# Altium footprint library PCB1.PcbLib: 37 footprints (part 1 of 3)
Each footprint in its own frame and in the unit in brackets; x right, y up, seen from the top. Pads: shape width x height; smd on the part's side, far side on the other; paste and mask are expansions set on the pad; w line width, h text height; cw(c..) or ccw(c..) is an arc to the next point about the centre after c.
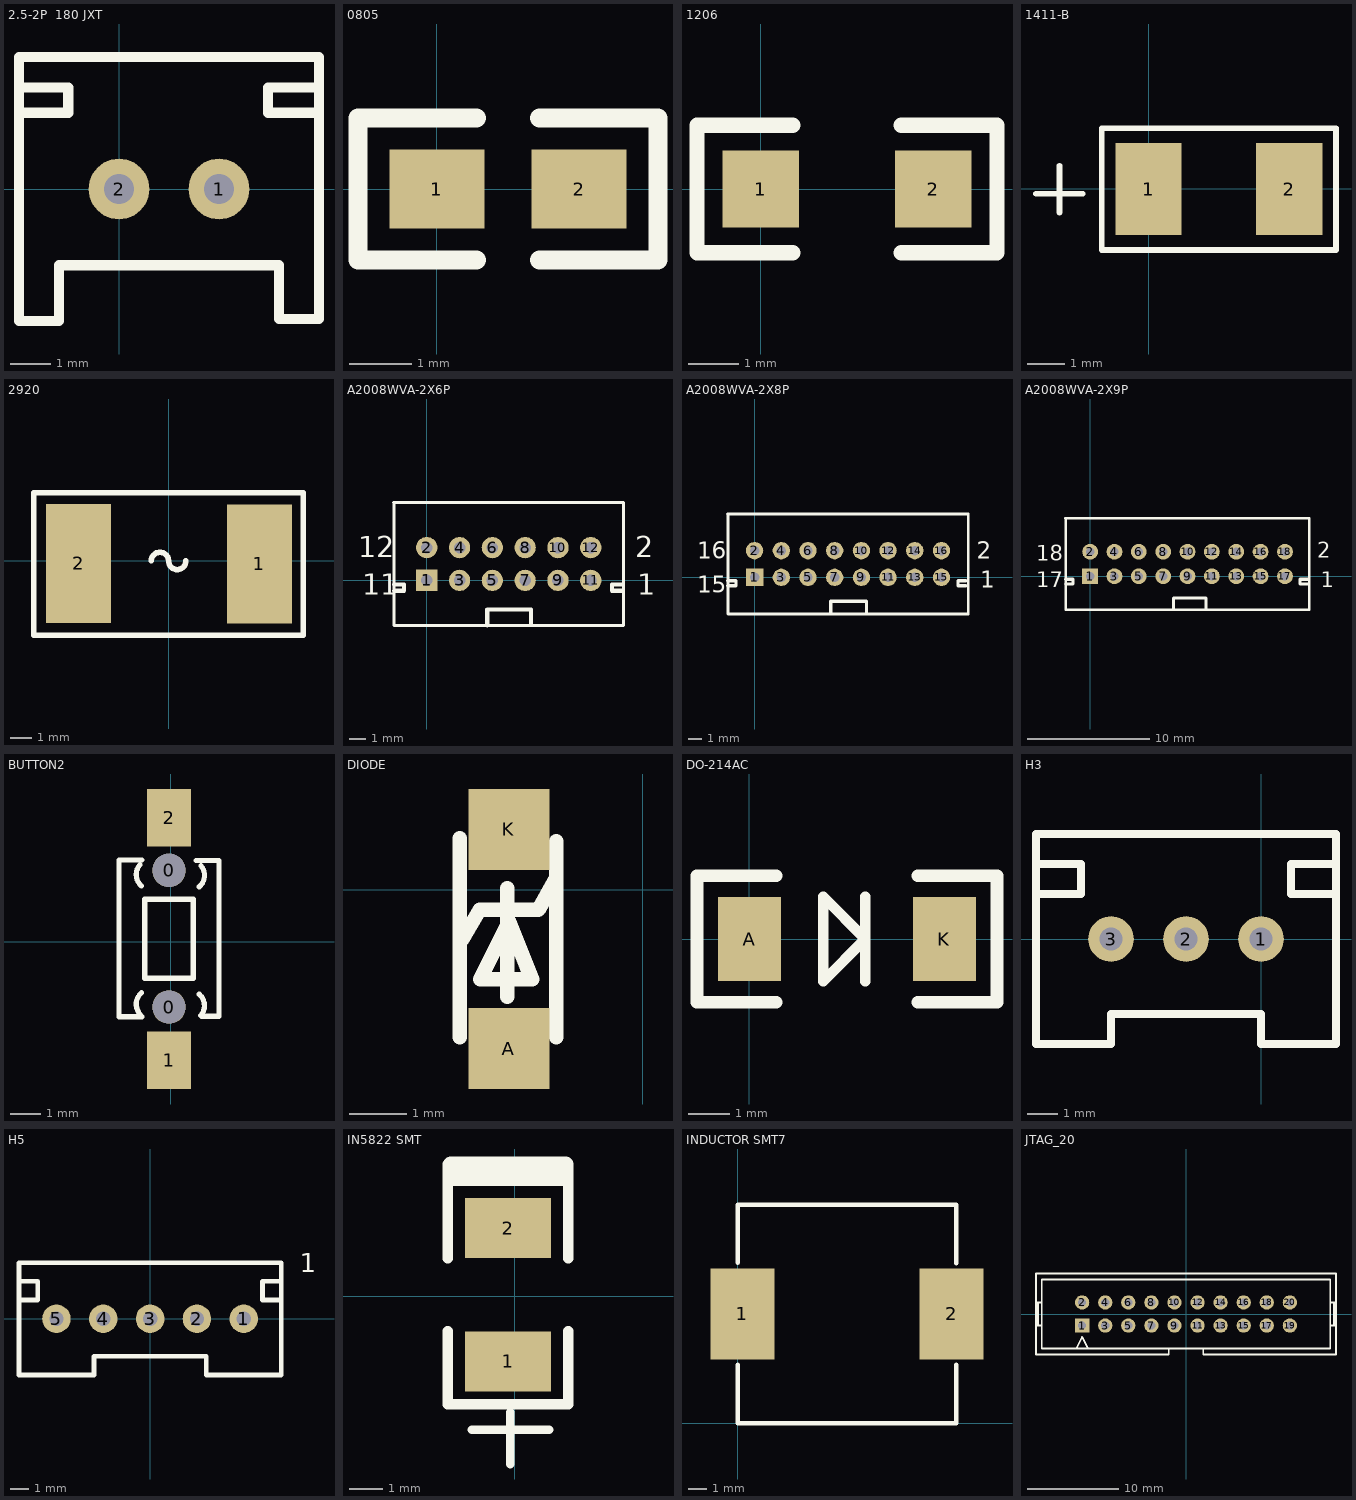
[diagram p0: the footprints below, top view; thin cyan lines are the x and y axes]

## 2.5-2P  180 JXT [mil]
pads (2):
  round 60 hole 30: 1(98.43,0) 2(0,0)
Top Overlay:
  lines w10: -98.43,75 -50,75 -50,100 -98.43,100 ; 195,75 146.57,75 146.57,100 195,100 ; -98.43,-129.92 -59.06,-129.92 -59.06,-75 157.48,-75 157.48,-128.07 196.85,-128.07 196.85,129.92 -98.43,129.92 -98.43,-129.92

## 0805 [mil]
height 509.06
pads (2):
  rect 60x50 smd: 1(0,0) 2(90,0)
Top Overlay:
  lines w12: 25,-45 -50,-45 -50,45 25,45 ; 65,-45 140,-45 140,45 65,45

## 1206 [mil]
pads (2):
  rect 60x60 smd: 1(0,0) 2(135,0)
Top Overlay:
  lines w12: 25,-50 -50,-50 -50,50 25,50 ; 110,-50 185,-50 185,50 110,50

## 1411-B [mm]
height 1.1
pads (2):
  rect 1.8x2.5 smd: 1(0,0) 2(3.81,0)
Top Overlay:
  lines w0.152: -3.048,-0.127 -1.778,-0.127 ; -2.413,-0.635 -2.413,0.635 ; -1.27,-1.651 -1.27,1.651 5.08,1.651 5.08,-1.651 -1.27,-1.651

## 2920 [mm]
pads (2):
  rect 3x5.5 smd: 1(4.199,-0.142) 2(-4.158,-0.117)
Top Overlay:
  lines w0.254: -0.8,0 cw(c-0.4,0) 0,0 ccw(c0.4,0) 0.8,0 ; 6.223,-3.444 -6.215,-3.444 -6.215,3.16 6.223,3.16 ; 6.231,-3.444 6.231,3.16

## A2008WVA-2X6P [mm] "Connector; Header; 8x2 Position"
pads (12):
  rect 1.3x1.3 hole 0.7: 1(0,0)
  round 1.3 hole 0.7: 2(0,2) 3(2,0) 4(2,2) 5(4,0) 6(4,2) 7(6,0) 8(6,2) 9(8,0) 10(8,2) 11(10,0) 12(10,2)
Top Overlay:
  lines w0.2: -2.032,4.75 11.938,4.75 ; -2,4.75 -2,-2.75 11.938,-2.75 ; 12,-2.75 12,4.75
  lines w0.254: -2,-0.635 -1.397,-0.635 -1.397,-0.254 -2,-0.254 ; 3.683,-2.75 3.683,-2.286 3.683,-1.778 6.35,-1.778 6.35,-2.623 ; 11.906,-0.635 11.303,-0.635 11.303,-0.254 11.906,-0.254
  text "2" at 12.7,1.397 h1.27
  text "1" at 12.827,-0.889 h1.27
  text "11" at -3.937,-0.889 h1.27
  text "12" at -4.191,1.397 h1.27

## A2008WVA-2X8P [mm] "Connector; Header; 8x2 Position"
pads (16):
  rect 1.3x1.3 hole 0.7: 1(0,0)
  round 1.3 hole 0.7: 2(0,2) 3(2,0) 4(2,2) 5(4,0) 6(4,2) 7(6,0) 8(6,2) 9(8,0) 10(8,2) 11(10,0) 12(10,2) 13(12,0) 14(12,2) 15(14,0) 16(14,2)
Top Overlay:
  lines w0.2: -2.032,4.75 16,4.75 16,-2.75 -2,-2.75 -2,4.75
  lines w0.254: -2,-0.635 -1.397,-0.635 -1.397,-0.254 -2,-0.254 ; 5.715,-2.75 5.715,-2.286 5.715,-1.778 8.382,-1.778 8.382,-2.623 ; 15.841,-0.635 15.238,-0.635 15.238,-0.254 15.841,-0.254
  text "16" at -4.318,1.397 h1.27
  text "15" at -4.318,-1.143 h1.27
  text "1" at 16.891,-0.762 h1.27
  text "2" at 16.637,1.397 h1.27

## A2008WVA-2X9P [mm] "Connector; Header; 8x2 Position"
pads (18):
  rect 1.3x1.3 hole 0.7: 1(0,0)
  round 1.3 hole 0.7: 2(0,2) 3(2,0) 4(2,2) 5(4,0) 6(4,2) 7(6,0) 8(6,2) 9(8,0) 10(8,2) 11(10,0) 12(10,2) 13(12,0) 14(12,2) 15(14,0) 16(14,2) 17(16,0) 18(16,2)
Top Overlay:
  lines w0.2: -2.032,4.75 18,4.75 18,-2.75 -2,-2.75 -2,4.75
  lines w0.254: -2,-0.635 -1.397,-0.635 -1.397,-0.254 -2,-0.254 ; 6.858,-2.75 6.858,-2.286 6.858,-1.778 9.525,-1.778 9.525,-2.623 ; 17.839,-0.635 17.236,-0.635 17.236,-0.254 17.839,-0.254
  text "2" at 18.669,1.524 h1.27
  text "1" at 18.923,-0.889 h1.27
  text "17" at -4.445,-0.889 h1.27
  text "18" at -4.445,1.27 h1.27

## BUTTON2 [mm]
pads (4):
  round 1.1 hole 1.1: 0(-0.058,-2.145) 0(-0.058,2.355)
  rect 1.44x1.9 smd: 1(-0.058,-3.895) 2(-0.058,4.085)
Top Overlay:
  lines w0.17: -1.016,2.54 ccw(c-0.641,2.215) -0.966,1.84 ; -1.015,-2.376 cw(c-0.64,-2.051) -0.965,-1.676 ; -0.958,-2.464 -1.708,-2.464 -1.708,2.692 -0.958,2.692 ; 0.842,2.675 1.592,2.675 1.592,-2.447 1.009,-2.447 0.99,-2.427 ccw(c0.615,-2.102) 0.94,-1.727 ; 0.941,1.815 ccw(c0.616,2.19) 0.991,2.515 ; -0.858,-1.195 -0.858,1.405 0.742,1.405 0.742,-1.195 -0.858,-1.195

## DIODE [mm]
pads (2):
  rect 1.4x1.4 smd: A(-2.321,-2.754) K(-2.321,1.046)
Top Overlay:
  lines w0.025: -3.121,-2.554 -3.121,0.846
  lines w0.254: -3.175,-2.554 -3.175,0.889 ; -3.121,-0.852 -2.827,-0.344 -1.811,-0.344 -1.521,0.164 ; -2.35,-1.854 -2.35,0.026 ; -1.5,-2.554 -1.5,0.844 ; -2.821,-1.554 -1.921,-1.554 -2.321,-0.554 -2.821,-1.554

## DO-214AC [mil]
pads (2):
  rect 60x80 smd: A(0.48,0.14) K(185.48,0.14)
Top Overlay:
  lines w10: 110.48,-39.86 110.48,40.14 ; 70.48,-39.86 110.48,0.14 70.48,40.14 70.48,-39.86
  lines w12: 25.48,-59.86 -49.52,-59.86 -49.52,60.14 25.48,60.14 ; 160.48,-59.86 235.48,-59.86 235.48,60.14 160.48,60.14

## H3 [mil] "Connector; Header; 8x2 Position"
pads (3):
  round 60 hole 30: 1(0,0) 2(-98.43,0) 3(-196.85,0)
Top Overlay:
  lines w10: -295.28,59.06 -236.22,59.06 -236.22,98.43 -295.28,98.43 ; 98.43,59.06 39.37,59.06 39.37,98.43 98.43,98.43 ; -295.28,-137.8 -295.28,137.8 -187.01,137.8 98.43,137.8 98.43,-137.8 39.37,-137.8 0,-137.8 0,-98.43 -196.85,-98.43 -196.85,-137.8 -236.22,-137.8 -295.28,-137.8

## H5 [mil] "JST"
pads (5):
  round 60 hole 30: 1(196.85,0) 2(98.43,0) 3(0,0) 4(-98.43,0) 5(-196.85,0)
Top Overlay:
  lines w10: -275.59,39.37 -236.22,39.37 -236.22,78.74 -275.59,78.74 ; 275.59,39.37 236.22,39.37 236.22,78.74 275.59,78.74 ; -275.59,-118.11 -275.59,118.11 275.59,118.11 275.59,-118.11 118.11,-118.11 118.11,-78.74 -118.11,-78.74 -118.11,-118.11 -275.59,-118.11
  text "1" at 314.96,98.43 h40

## IN5822 SMT [mil]
pads (2):
  rect 100x70 smd: 1(-7.7,-75.6) 2(-7.7,79.4)
Top Overlay:
  lines w10: -50,-155 40,-155 ; -5,-195 -5,-135
  lines w12: -78,44 -78,154 ; -77.7,-40.6 -77.7,-125.6 62.3,-125.6 62.3,-40.6 ; 62.3,44.4 62.5,153.5
  lines w18: -74.3,137.5 59.5,137.5 ; -74.3,153.5 59.5,153.5

## INDUCTOR SMT7 [mm]
pads (2):
  rect 3.5x5 smd: 1(0.25,6) 2(11.75,6)
Top Overlay:
  lines w0.254: 0,3.2 0,0 12,0 12,3.2 ; 0,8.825 0,12 12,12 12,8.8

## JTAG_20 [mil]
pads (20):
  rect 62x62 hole 35: 1(-450,-50)
  round 62 hole 35: 2(-450,50) 3(-350,-50) 4(-350,50) 5(-250,-50) 6(-250,50) 7(-150,-50) 8(-150,50) 9(-50,-50) 10(-50,50) 11(50,-50) 12(50,50) 13(150,-50) 14(150,50) 15(250,-50) 16(250,50) 17(350,-50) 18(350,50) 19(450,-50) 20(450,50)
Top Overlay:
  lines w8: -650,-50 -625,-50 ; -650,50 -625,50 ; -641.67,-50 -641.67,50 ; -475,-150 -450,-100 -425,-150 ; -339.57,-175 -75,-175 -75,-150 ; -325,-175 -650,-175 -650,175 650,175 650,-175 325,-175 75,-175 75,-150 ; 625,-50 650,-50 ; 625,50 650,50 ; 641.67,-50 641.67,50 ; -75,-150 75,-150 ; -75,-150 -625,-150 -625,150 625,150 625,-150 75,-150